# EAGLE library part BXE-040-01-F-D-A (library tcspc_lib)
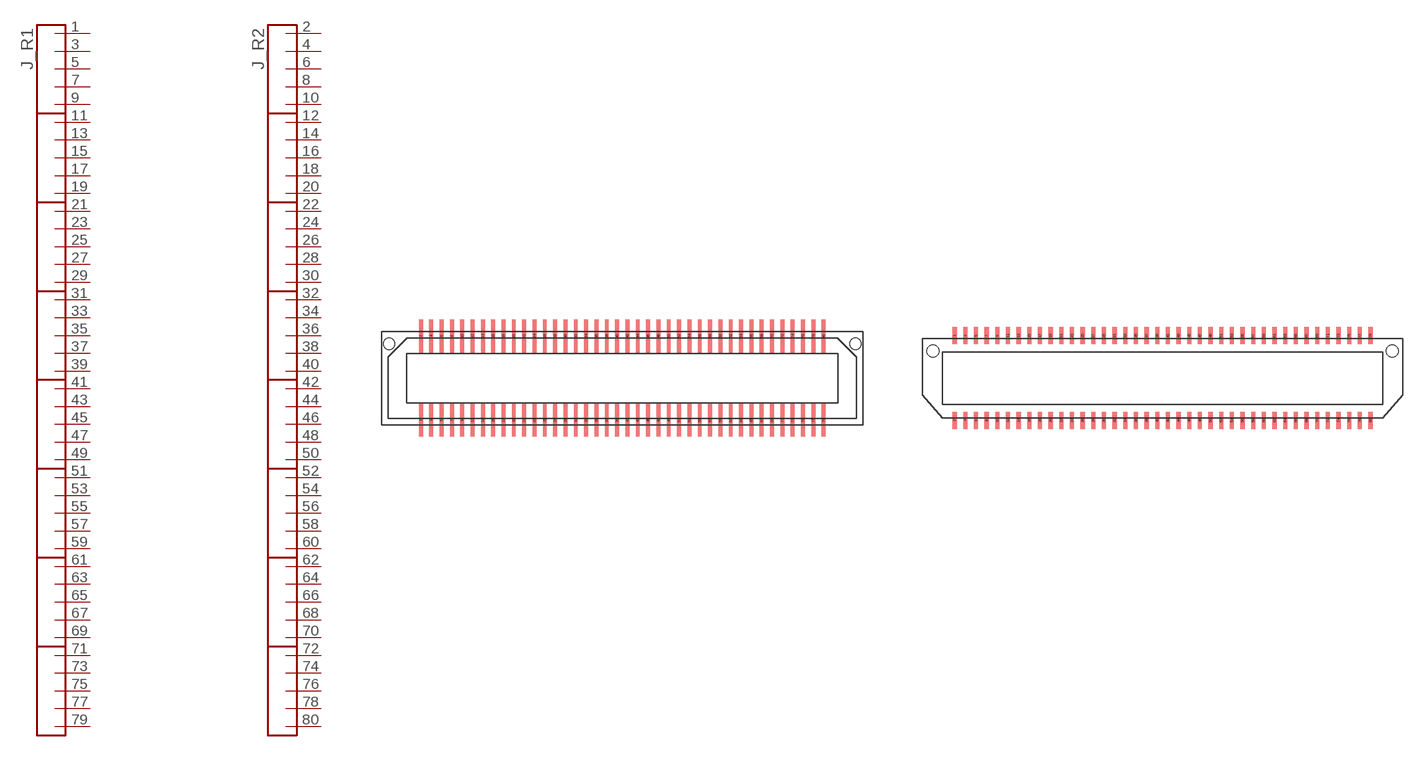
[diagram p8: symbol with the pads of BSE-040-01-F-D-A; footprints BSE-040-01-F-D-A, BTE-040-01-F-D-A]

Designator prefix J; gates _R1=CONN_BUS_40P _R2=CONN_BUS_40P

## BXE-040-01-F-D-A_BSE  [BSE-040-01-F-D-A]
1  _R1:P1
2  _R2:P1
3  _R1:P2
4  _R2:P2
5  _R1:P3
6  _R2:P3
7  _R1:P4
8  _R2:P4
9  _R1:P5
10  _R2:P5
11  _R1:P6
12  _R2:P6
13  _R1:P7
14  _R2:P7
15  _R1:P8
16  _R2:P8
17  _R1:P9
18  _R2:P9
19  _R1:P10
20  _R2:P10
21  _R1:P11
22  _R2:P11
23  _R1:P12
24  _R2:P12
25  _R1:P13
26  _R2:P13
27  _R1:P14
28  _R2:P14
29  _R1:P15
30  _R2:P15
31  _R1:P16
32  _R2:P16
33  _R1:P17
34  _R2:P17
35  _R1:P18
36  _R2:P18
37  _R1:P19
38  _R2:P19
39  _R1:P20
40  _R2:P20
41  _R1:P21
42  _R2:P21
43  _R1:P22
44  _R2:P22
45  _R1:P23
46  _R2:P23
47  _R1:P24
48  _R2:P24
49  _R1:P25
50  _R2:P25
51  _R1:P26
52  _R2:P26
53  _R1:P27
54  _R2:P27
55  _R1:P28
56  _R2:P28
57  _R1:P29
58  _R2:P29
59  _R1:P30
60  _R2:P30
61  _R1:P31
62  _R2:P31
63  _R1:P32
64  _R2:P32
65  _R1:P33
66  _R2:P33
67  _R1:P34
68  _R2:P34
69  _R1:P35
70  _R2:P35
71  _R1:P36
72  _R2:P36
73  _R1:P37
74  _R2:P37
75  _R1:P38
76  _R2:P38
77  _R1:P39
78  _R2:P39
79  _R1:P40
80  _R2:P40

## BXE-040-01-F-D-A_BTE  [BTE-040-01-F-D-A]
Pads as for BSE-040-01-F-D-A

## Footprint BSE-040-01-F-D-A (pad centres in mm)
smd 0.305 x 2.54: 1 -15.602,-3.264; 2 -15.602,3.264; 3 -14.802,-3.264; 4 -14.802,3.264; 5 -14.002,-3.264; 6 -14.002,3.264; 7 -13.202,-3.264; 8 -13.202,3.264; 9 -12.402,-3.264; 10 -12.402,3.264; 11 -11.601,-3.264; 12 -11.601,3.264; 13 -10.801,-3.264; 14 -10.801,3.264; 15 -10.001,-3.264; 16 -10.001,3.264; 17 -9.201,-3.264; 18 -9.201,3.264; 19 -8.401,-3.264; 20 -8.401,3.264; 21 -7.601,-3.264; 22 -7.601,3.264; 23 -6.801,-3.264; 24 -6.801,3.264; 25 -6.001,-3.264; 26 -6.001,3.264; 27 -5.201,-3.264; 28 -5.201,3.264; 29 -4.401,-3.264; 30 -4.401,3.264; 31 -3.6,-3.264; 32 -3.6,3.264; 33 -2.8,-3.264; 34 -2.8,3.264; 35 -2,-3.264; 36 -2,3.264; 37 -1.2,-3.264; 38 -1.2,3.264; 39 -0.4,-3.264; 40 -0.4,3.264; 41 0.4,-3.264; 42 0.4,3.264; 43 1.2,-3.264; 44 1.2,3.264; 45 2,-3.264; 46 2,3.264; 47 2.8,-3.264; 48 2.8,3.264; 49 3.6,-3.264; 50 3.6,3.264; 51 4.401,-3.264; 52 4.401,3.264; 53 5.201,-3.264; 54 5.201,3.264; 55 6.001,-3.264; 56 6.001,3.264; 57 6.801,-3.264; 58 6.801,3.264; 59 7.601,-3.264; 60 7.601,3.264; 61 8.401,-3.264; 62 8.401,3.264; 63 9.201,-3.264; 64 9.201,3.264; 65 10.001,-3.264; 66 10.001,3.264; 67 10.801,-3.264; 68 10.801,3.264; 69 11.601,-3.264; 70 11.601,3.264; 71 12.402,-3.264; 72 12.402,3.264; 73 13.202,-3.264; 74 13.202,3.264; 75 14.002,-3.264; 76 14.002,3.264; 77 14.802,-3.264; 78 14.802,3.264; 79 15.602,-3.264; 80 15.602,3.264
hole 0.889 at -18.066,2.667
hole 0.889 at 18.066,2.667

## Footprint BTE-040-01-F-D-A (pad centres in mm)
smd 0.305 x 1.27: 1 -15.602,3.175; 2 -15.602,-3.175; 3 -14.802,3.175; 4 -14.802,-3.175; 5 -14.002,3.175; 6 -14.002,-3.175; 7 -13.202,3.175; 8 -13.202,-3.175; 9 -12.402,3.175; 10 -12.402,-3.175; 11 -11.601,3.175; 12 -11.601,-3.175; 13 -10.801,3.175; 14 -10.801,-3.175; 15 -10.001,3.175; 16 -10.001,-3.175; 17 -9.201,3.175; 18 -9.201,-3.175; 19 -8.401,3.175; 20 -8.401,-3.175; 21 -7.601,3.175; 22 -7.601,-3.175; 23 -6.801,3.175; 24 -6.801,-3.175; 25 -6.001,3.175; 26 -6.001,-3.175; 27 -5.201,3.175; 28 -5.201,-3.175; 29 -4.401,3.175; 30 -4.401,-3.175; 31 -3.6,3.175; 32 -3.6,-3.175; 33 -2.8,3.175; 34 -2.8,-3.175; 35 -2,3.175; 36 -2,-3.175; 37 -1.2,3.175; 38 -1.2,-3.175; 39 -0.4,3.175; 40 -0.4,-3.175; 41 0.4,3.175; 42 0.4,-3.175; 43 1.2,3.175; 44 1.2,-3.175; 45 2,3.175; 46 2,-3.175; 47 2.8,3.175; 48 2.8,-3.175; 49 3.6,3.175; 50 3.6,-3.175; 51 4.401,3.175; 52 4.401,-3.175; 53 5.201,3.175; 54 5.201,-3.175; 55 6.001,3.175; 56 6.001,-3.175; 57 6.801,3.175; 58 6.801,-3.175; 59 7.601,3.175; 60 7.601,-3.175; 61 8.401,3.175; 62 8.401,-3.175; 63 9.201,3.175; 64 9.201,-3.175; 65 10.001,3.175; 66 10.001,-3.175; 67 10.801,3.175; 68 10.801,-3.175; 69 11.601,3.175; 70 11.601,-3.175; 71 12.402,3.175; 72 12.402,-3.175; 73 13.202,3.175; 74 13.202,-3.175; 75 14.002,3.175; 76 14.002,-3.175; 77 14.802,3.175; 78 14.802,-3.175; 79 15.602,3.175; 80 15.602,-3.175
hole 0.889 at -17.24,2.032
hole 0.889 at 17.24,2.032